# EAGLE library part SW-CHERRY-MX-BREAKOUT-1 (library switch)
Cherry MX mini breakout board
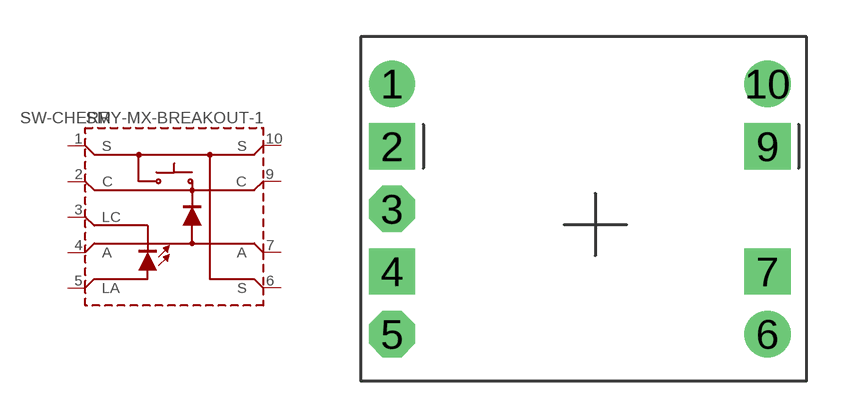
[diagram p1: symbol with the pads of SW-CHERRY-MX-BREAKOUT-1; footprint SW-CHERRY-MX-BREAKOUT-1]

Designator prefix SM

## SW-CHERRY-MX-BREAKOUT-1  [SW-CHERRY-MX-BREAKOUT-1]
1  S  pas
2  C  pas
3  LC  pas
4  A  pas
5  LA  pas
6  S  pas
7  A  pas
9  C  pas
10  S  pas

## Footprint SW-CHERRY-MX-BREAKOUT-1 (pad centres in mm)
Cherry MX mini breakout
drill 1.016 pad 1.88: 1 -7.62,5.08; 6 7.62,-5.08; 10 7.62,5.08
drill 1.016 pad 1.88 square: 2 -7.62,2.54; 4 -7.62,-2.54; 7 7.62,-2.54; 9 7.62,2.54
drill 1.016 pad 1.88 octagon: 3 -7.62,0; 5 -7.62,-5.08